# Altium footprint library INDPM4532X280N.PcbLib: 1 footprints
Each footprint in its own frame and in the unit in brackets; x right, y up, seen from the top. Pads: shape width x height; smd on the part's side, far side on the other; paste and mask are expansions set on the pad; w line width, h text height; cw(c..) or ccw(c..) is an arc to the next point about the centre after c.
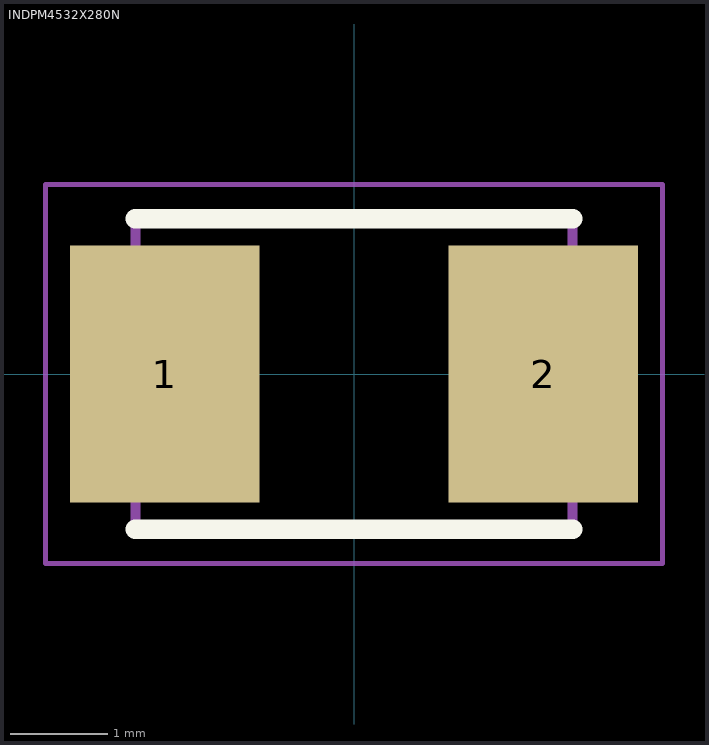
[diagram p0: the footprint, top view; thin cyan lines are the x and y axes]

## INDPM4532X280N [mm]
pads (2):
  rect 1.95x2.65 smd: 1(-1.95,0) 2(1.95,0)
L26-Silk Screen Top (Multiple PADS layers...):
  lines w0.2: -2.25,-1.6 2.25,-1.6 ; -2.25,1.6 2.25,1.6
L15 (Multiple PADS layers...):
  lines w0.1: -2.25,-1.6 -2.25,1.6 2.25,1.6 2.25,-1.6 -2.25,-1.6
L20:
  lines w0.05: -3.175,-1.95 -3.175,1.95 3.175,1.95 3.175,-1.95 -3.175,-1.95
3D body "LQH43CN100K03L.stp": height 2.8, standoff 0, extent -2.25,-1.6 2.25,1.6